# Altium footprint library PcbLib1.PcbLib: 35 footprints (part 1 of 3)
Each footprint in its own frame and in the unit in brackets; x right, y up, seen from the top. Pads: shape width x height; smd on the part's side, far side on the other; paste and mask are expansions set on the pad; w line width, h text height; cw(c..) or ccw(c..) is an arc to the next point about the centre after c.
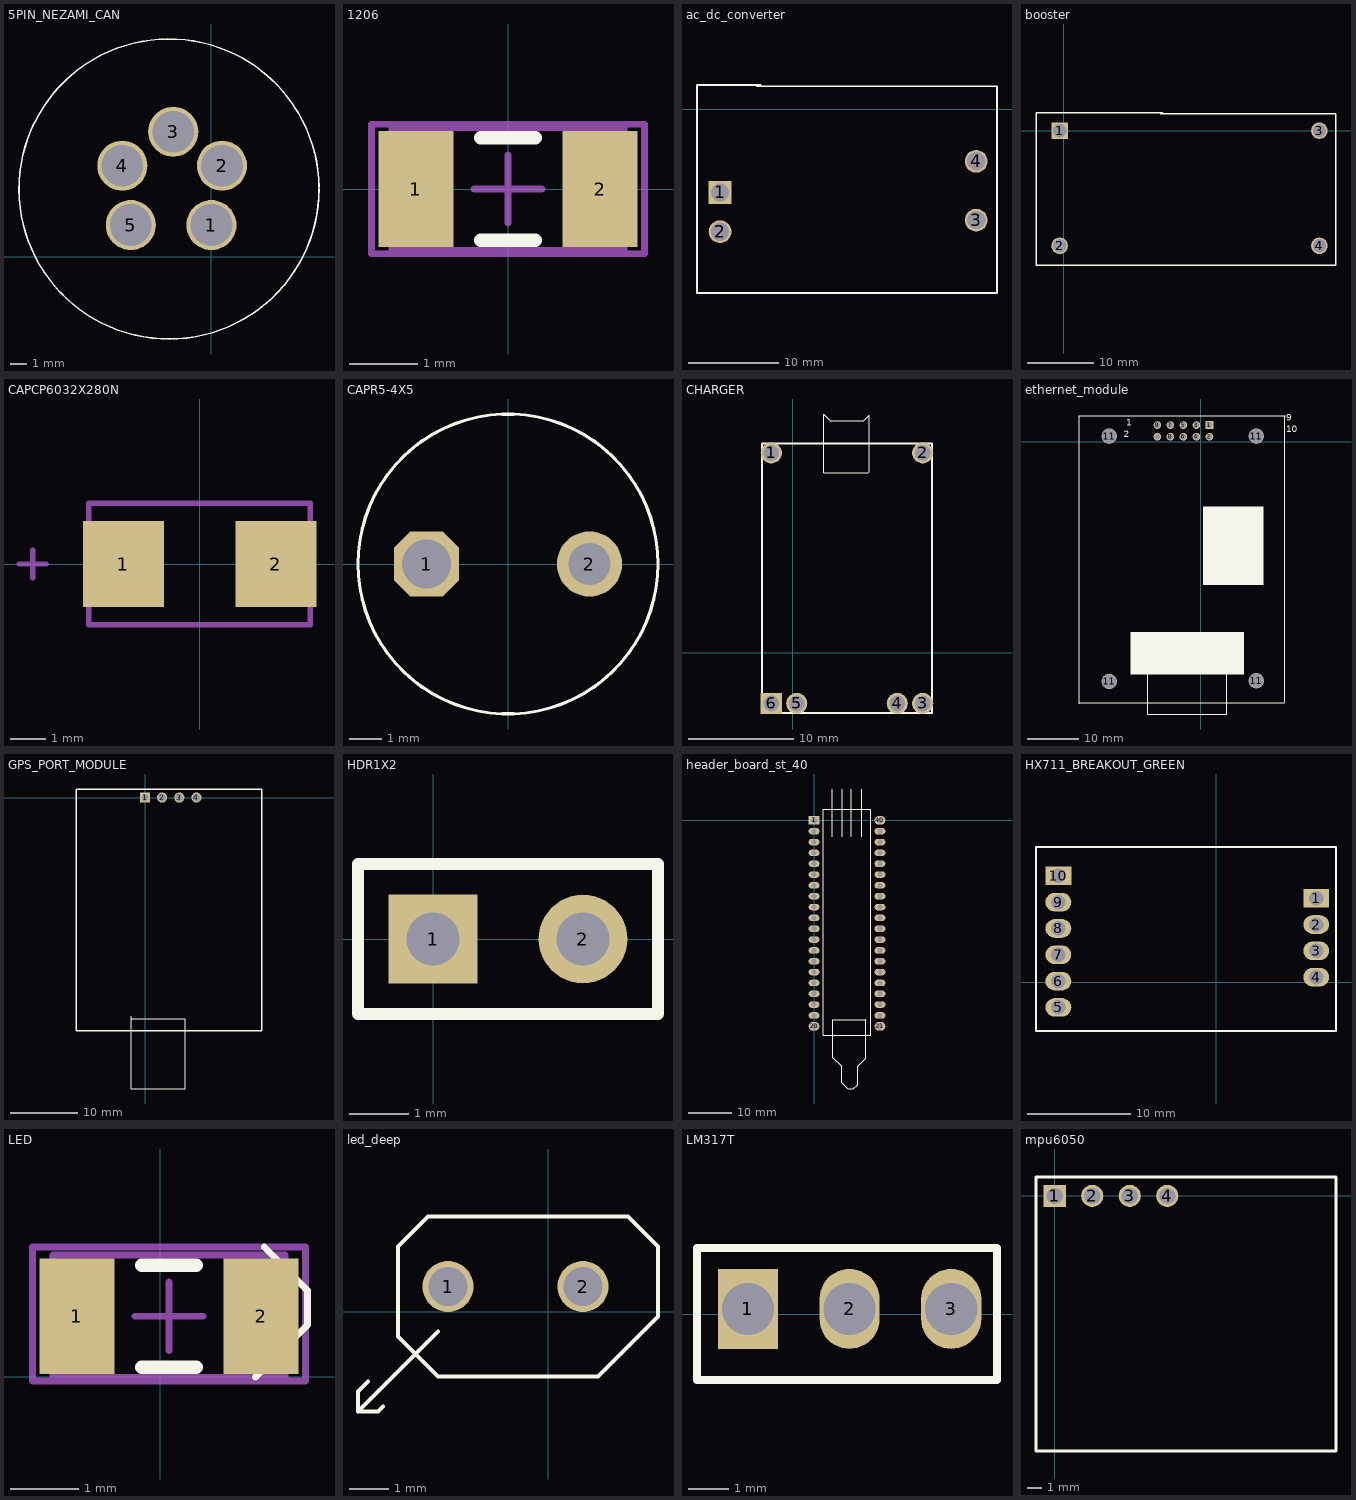
[diagram p0: the footprints below, top view; thin cyan lines are the x and y axes]

## 5PIN_NEZAMI_CAN [mm]
pads (5):
  round 3 hole 2.5: 1(0,1.905) 2(0.635,5.461) 3(-2.286,7.493) 4(-5.334,5.461) 5(-4.826,1.905)
Top Overlay:
  lines w0.1: 6.442,4.163 ccw(c-2.54,4.064) 6.442,4.066

## 1206 [mm] "Chip Capacitor, Body 3.2x1.6mm, IPC High Density"
height 1.3
pads (2):
  rect 1.1x1.7 smd: 1(-1.35,0) 2(1.35,0)
Top Overlay:
  lines w0.2: -0.4,-0.75 0.4,-0.75 ; -0.4,0.75 0.4,0.75
Mechanical 13:
  lines w0.1: -1.7,-0.9 1.7,-0.9 1.7,0.9 -1.7,0.9 -1.7,-0.9
Mechanical 15:
  lines w0.1: -0.5,0 0.5,0 ; 0,-0.5 0,0.5 ; -2,-0.95 2,-0.95 2,0.95 -2,0.95 -2,-0.95
3D body: height 1.3, standoff 0, extent -1.7,-0.9 1.7,0.9

## ac_dc_converter [mm]
pads (4):
  rect 2.5x2.5 hole 2: 1(10.414,-9.144)
  round 2.5 hole 2: 2(10.414,-13.462) 3(38.608,-12.192) 4(38.608,-5.715)
Top Overlay:
  lines w0.2: 14.478,2.54 40.894,2.54 40.894,-20.193 7.874,-20.193 7.874,2.667 14.875,2.667

## booster [mm]
pads (4):
  rect 2.5x2.5 hole 2: 1(-0.635,0)
  round 2.5 hole 2: 2(-0.635,-17.3) 3(38.4,0) 4(38.4,-17.3)
Top Overlay:
  lines w0.2: 14.478,2.54 40.894,2.54 40.894,-20.193 -4.191,-20.193 -4.191,2.667 14.875,2.667

## CAPCP6032X280N [mil]
height 66.93
pads (2):
  rect 89x95 smd: 1(-84,0) 2(84,0)
Bottom Overlay:
  lines w6: -122,-61 -122,-67 122,-67 122,-61 ; -122,61 -122,67 122,67 122,61
Mechanical 1:
  lines w6: -199,0 -169,0 ; -184,-15 -184,15 ; -122,-67 -122,67 122,67 122,-67 -122,-67

## CAPR5-4X5 [mm]
pads (2):
  oct 2x2 hole 1.5: 1(-2.5,0)
  round 2 hole 1.3: 2(2.5,0)
Top Overlay:
  circle w0.1: c0,0 r4.602

## CHARGER [mm]
pads (6):
  round 2 hole 1.5: 1(-2.032,18.923) 2(12.319,18.923) 3(12.319,-4.826) 4(9.906,-4.826) 5(0.381,-4.826)
  rect 2x2 hole 1.5: 6(-2.032,-4.826)
Top Overlay:
  lines w0.1: 2.921,17.018 2.921,22.606 3.556,21.971 6.731,21.971 7.239,22.479 7.239,17.145 7.112,17.018 2.921,17.018
  lines w0.2: -2.921,-5.715 -2.921,19.812 13.208,19.812 13.208,-5.715 -2.921,-5.715

## ethernet_module [mm] "Connector; Header; 5x2 Position"
pads (14):
  rect 1.5x1.5 hole 1.1: 1(1.651,3.302)
  round 1.5 hole 1.1: 2(1.651,1.016) 3(-0.889,3.302) 4(-0.889,1.016) 5(-3.429,3.302) 6(-3.429,1.016) 7(-5.969,3.302) 8(-5.969,1.016) 9(-8.509,3.302) 10(-8.509,1.016)
  round 3 hole 2.8: 11(-17.907,-46.736) 11(-17.907,1.143) 11(10.795,-46.609) 11(10.795,1.143)
Top Overlay:
  rectangle: 0.381,-27.94 12.192,-12.573
  rectangle: -13.716,-45.339 8.382,-37.084
  lines w0.1: -10.414,-53.086 -10.414,-38.735 5.08,-38.735 5.08,-53.086 -10.414,-53.086
  lines w0.2: -23.749,-51.054 -23.749,5.08 16.51,5.08 ; -23.749,-50.927 16.383,-50.927 ; 16.383,-50.673 16.383,-13.97 16.383,5.08
  text "10" at 16.637,1.905 h1.27
  text "9" at 16.637,4.191 h1.27
  text "1" at -14.605,3.175 h1.27
  text "2" at -15.113,0.889 h1.27

## GPS_PORT_MODULE [mm] "Connector; Header; 4 Position"
pads (4):
  rect 1.5x1.5 hole 1.1: 1(0,0)
  round 1.5 hole 1.1: 2(2.54,0) 3(5.08,0) 4(7.62,0)
Top Overlay:
  lines w0.1: -2.032,-32.893 -1.905,-32.766 5.969,-32.766 5.969,-43.18 3.175,-43.18 -2.032,-43.18 -2.032,-40.767 -2.032,-32.385
  lines w0.2: -10.16,-34.544 -10.16,1.27 17.272,1.27 17.272,-34.544 -10.16,-34.544

## HDR1X2 [mm] "Connector; Header; 2 Position"
pads (2):
  rect 1.5x1.5 hole 0.9: 1(0,0)
  round 1.5 hole 0.9: 2(2.54,0)
Top Overlay:
  lines w0.2: -1.27,-1.27 -1.27,1.27 3.81,1.27 3.81,-1.27 -1.27,-1.27

## header_board_st_40 [mm]
pads (40):
  rect 2.5x2 hole 1.5: 1(0,0)
  oval 2.5x1.5 hole 1.2: 2(0,-2.5) 3(0,-5) 4(0,-7.5) 5(0,-10) 6(0,-12.5) 7(0,-15) 8(0,-17.5) 9(0,-20) 10(0,-22.5) 11(0,-25) 12(0,-27.5) 13(0,-30) 14(0,-32.5) 15(0,-35) 16(0,-37.5) 17(0,-40) 18(0,-42.5) 19(0,-45) 22(15.2,-45) 23(15.2,-42.5) 24(15.2,-40) 25(15.2,-37.5) 26(15.2,-35) 27(15.2,-32.5) 28(15.2,-30) 29(15.2,-27.5) 30(15.2,-25) 31(15.2,-22.5) 32(15.2,-20) 33(15.2,-17.5) 34(15.2,-15) 35(15.2,-12.5) 36(15.2,-10) 37(15.2,-7.5) 38(15.2,-5) 39(15.2,-2.5)
  oval 2.5x2 hole 1.5: 20(0,-47.5) 21(15.2,-47.5)
  oval 2.5x2 hole 1.4: 40(15.2,0)
Top Overlay:
  lines w0.1: 4.191,-3.81 4.191,7.239 ; 6.477,-3.81 6.477,7.239 ; 8.636,-3.81 8.636,7.239 ; 10.956,-3.81 10.956,7.239 ; 4.318,-54.737 6.35,-56.769 6.35,-60.579 7.747,-61.976 9.017,-61.976 10.033,-60.96 10.033,-56.769 11.938,-54.864 11.938,-45.847 11.811,-45.974 4.318,-45.974 4.318,-54.737
  lines w0.2: 1.958,2.54 6.711,2.54 12.988,2.54 ; 2.085,2.54 2.085,-49.53 13.115,-49.53 13.115,2.54

## HX711_BREAKOUT_GREEN [mm]
pads (10):
  rect 2.5x1.8 hole 1.4: 1(9.652,8.128) 10(-15.24,10.287)
  oval 2.5x1.8 hole 1.4: 2(9.652,5.588) 3(9.652,3.048) 4(9.652,0.508) 5(-15.24,-2.413) 6(-15.24,0.127) 7(-15.24,2.667) 8(-15.24,5.207) 9(-15.24,7.747)
Top Overlay:
  lines w0.2: -17.399,-4.699 -17.399,13.081 11.557,13.081 11.557,-4.699 -17.399,-4.699

## LED [mm]
pads (2):
  rect 1.1x1.7 smd: 1(-1.223,0.889) 2(1.477,0.889)
Top Overlay:
  lines w0.1: 1.397,0 2.159,0.762 2.159,1.27 1.524,1.905
  lines w0.2: -0.273,0.139 0.527,0.139 ; -0.273,1.639 0.527,1.639
Mechanical 13:
  lines w0.1: -1.573,-0.011 -1.573,1.789 1.827,1.789 1.827,-0.011 -1.573,-0.011
Mechanical 15:
  lines w0.1: -0.373,0.889 0.627,0.889 ; 0.127,0.389 0.127,1.389 ; -1.873,-0.061 -1.873,1.905 2.127,1.905 2.127,-0.061 -1.873,-0.061
3D body: height 1.3, standoff 0, extent -1.573,-0.011 1.827,1.789

## led_deep [mm]
pads (2):
  round 1.3 hole 1: 1(-2.54,0.635) 2(0.889,0.635)
Top Overlay:
  lines w0.1: -4.572,-1.778 -4.826,-2.032 -4.826,-2.54 ; -4.191,-2.413 -4.318,-2.54 -4.826,-2.54 ; -2.794,-0.508 -4.826,-2.54 ; -3.81,-0.635 -2.794,-1.651 1.27,-1.651 2.794,-0.127 2.794,1.651 2.032,2.413 1.27,2.413 -3.048,2.413 -3.81,1.651 -3.81,-0.635

## LM317T [mm] "Connector; Header; 3 Position"
pads (3):
  rect 1.5x2 hole 1.3: 1(5.334,0.127)
  oval 1.5x2 hole 1.3: 2(7.874,0.127) 3(10.414,0.127)
Top Overlay:
  lines w0.2: 4.064,-1.651 4.064,1.651 11.557,1.651 11.557,-1.651 4.064,-1.651

## mpu6050 [mm] "Connector; Header; 8 Position"
pads (4):
  rect 1.5x1.5 hole 1.1: 1(0,0)
  round 1.5 hole 1.1: 2(2.54,0) 3(5.08,0) 4(7.62,0)
Top Overlay:
  lines w0.2: -1.27,-17.272 19.05,-17.272 19.05,1.27 -1.27,1.27 -1.27,-17.272